# Altium footprint library SOTFL40P120X59-3N.PcbLib: 1 footprints
Each footprint in its own frame and in the unit in brackets; x right, y up, seen from the top. Pads: shape width x height; smd on the part's side, far side on the other; paste and mask are expansions set on the pad; w line width, h text height; cw(c..) or ccw(c..) is an arc to the next point about the centre after c.
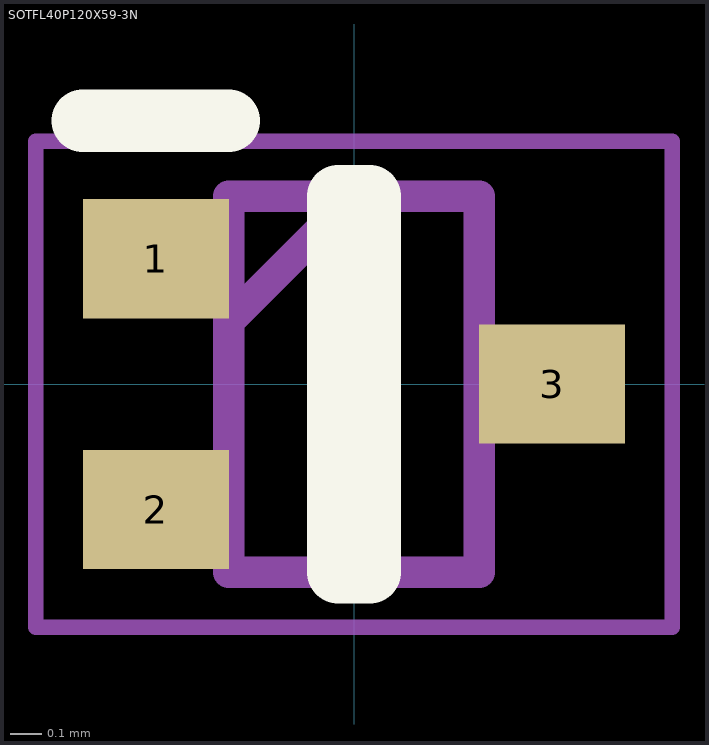
[diagram p0: the footprint, top view; thin cyan lines are the x and y axes]

## SOTFL40P120X59-3N [mm]
pads (3):
  rect 0.465x0.38 smd: 1(-0.632,0.4) 2(-0.632,-0.4) 3(0.632,0)
Top Overlay:
  lines w0.2: -0.865,0.84 -0.4,0.84 ; -0.05,-0.6 0.05,-0.6 0.05,0.6 -0.05,0.6 -0.05,-0.6
Mechanical 15:
  lines w0.1: -0.4,0.2 0,0.6 ; -0.4,-0.6 0.4,-0.6 0.4,0.6 -0.4,0.6 -0.4,-0.6
Mechanical 20:
  lines w0.05: -1.015,-0.775 1.015,-0.775 1.015,0.775 -1.015,0.775 -1.015,-0.775